# Altium integrated library NSC Interface PIN Driver.IntLib: 2 symbols
Pins are listed as number, name and electrical type; pins without a type are passive.

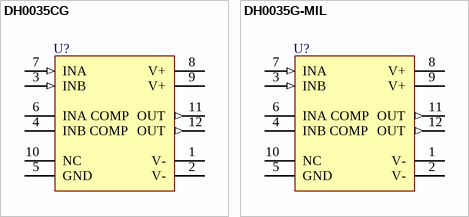
[diagram p0: symbols DH0035CG to DH0035G-MIL]

## DH0035CG
designator U?
PIN Diode Driver; ComponentAvailability: Obsolete; Published: 15-Apr-2002; DatasheetVersion: Feb-1995; PackageVersion: 2000; PackageReference: G12B; Publisher: Altium Limited; PackageDescription: Can; 12 Leads; 10.16 mm Square Array; Lead Dia. 0.48 mm (max); ComponentLink1Description: Manufacturer Link; ComponentLink1URL: http://www.national.com/; ComponentLink2Description: Discontinuation Notice; ComponentLink2URL: http://www.national.com/obs/obsolescence.txt
footprint G12B (Can; 12 Leads; 10.16 mm Square Array; Lead Dia. 0.48 mm (max))
pins: 1 V- (power), 2 V- (power), 3 INB (in), 4 INB COMP, 5 GND (power), 6 INA COMP, 7 INA (in), 8 V+ (power), 9 V+ (power), 10 NC, 11 OUT (out), 12 OUT (out)

## DH0035G-MIL
designator U?
PIN Diode Driver; ComponentAvailability: Obsolete; Published: 15-Apr-2002; DatasheetVersion: Feb-1995; PackageVersion: 2000; PackageReference: G12B; Publisher: Altium Limited; PackageDescription: Can; 12 Leads; 10.16 mm Square Array; Lead Dia. 0.48 mm (max); ComponentLink1Description: Manufacturer Link; ComponentLink1URL: http://www.national.com/; ComponentLink2Description: Discontinuation Notice; ComponentLink2URL: http://www.national.com/obs/obsolescence.txt
footprint G12B (Can; 12 Leads; 10.16 mm Square Array; Lead Dia. 0.48 mm (max))
pins: 1 V- (power), 2 V- (power), 3 INB (in), 4 INB COMP, 5 GND (power), 6 INA COMP, 7 INA (in), 8 V+ (power), 9 V+ (power), 10 NC, 11 OUT (out), 12 OUT (out)